# Altium integrated library DAC80501MDQFR.IntLib: 1 symbol
Pins are listed as number, name and electrical type; pins without a type are passive.

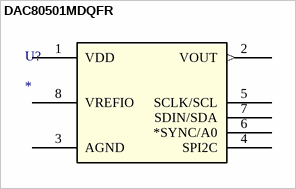
[diagram p0: symbol DAC80501MDQFR]

## DAC80501MDQFR
designator U?
True 16-bit, 1-ch, SPI/I2C, voltage-output DAC in WSON package with precision internal reference; Mfr_Name: Texas Instruments; RefDes: RefDes; Type: Type; Supplier 1: Mouser; Supplier Part Number 1: 595-DAC80501MDQFR
footprint WSON8_2P1X2P1_TEX
pins: 1 VDD (power), 2 VOUT (out), 3 AGND (power), 4 SPI2C, 5 SCLK/SCL, 6 *SYNC/A0, 7 SDIN/SDA, 8 VREFIO (power)